# Altium integrated library EC11J0924411.IntLib: 1 symbol
Pins are listed as number, name and electrical type; pins without a type are passive.

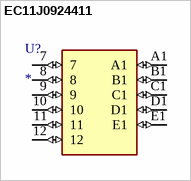
[diagram p0: symbol EC11J0924411]

## EC11J0924411
designator U?
11mm Size Metal Shaft Type EC11J Series Encoders, SMD; MF: ALPS; MP: EC11J0924411; SnapEDA_Link: https://www.snapeda.com/parts/EC11J0924411/ALPS/view-part/?ref=snap; Package: None; Value: *; Check_prices: https://www.snapeda.com/parts/EC11J0924411/ALPS/view-part/?ref=eda
footprint EC11J0924411
pins: 7 (io), 8 (io), 9 (io), 10 (io), 11 (io), 12 (io), A1 (io), B1 (io), C1 (io), D1 (io), E1 (io)